# Altium integrated library 2013499-1.IntLib: 1 symbol
Pins are listed as number, name and electrical type; pins without a type are passive.

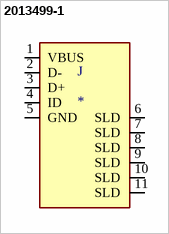
[diagram p0: symbol 2013499-1]

## 2013499-1
designator J
Conn Micro USB 2.0 Type B RCP 5 POS 0.65mm Solder RA SMD 5 Terminal 1 Port T/R; MP: 2013499-1; Centerline_Pitch: .65 mm[.025 in]; Number_of_Positions: 5; Product_Type: Connector; MF: TE Connectivity; Price: None; SnapEDA_Link: https://www.snapeda.com/parts/2013499-1/TE%20Connectivity%20AMP%20Connectors/view-part/779144/?ref=snap; Availability: Unavailable; Value: *; TE_purchase_URL: https://www.te.com/usa-en/product-2013499-1.html?te_bu=Cor&te_type=disp&te_campaign=seda_glo_cor-seda-global-disp-prtnr-fy19-seda-model-bom-cta_sma-317_1&elqCampaignId=32493; Package: None
footprint TE_2013499-1
pins: 1 VBUS (power), 2 D-, 3 D+, 4 ID, 5 GND (power), 6 SLD, 7 SLD, 8 SLD, 9 SLD, 10 SLD, 11 SLD